# Altium schematic symbol library Driver_Haptic.SchLib: 2 symbols
Pins are listed as number, name and electrical type; pins without a type are passive.

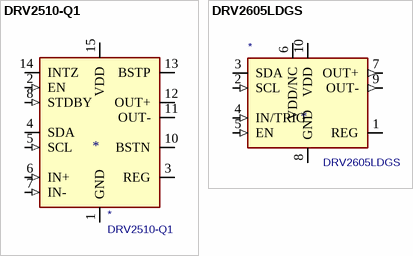
[diagram p0: symbols DRV2510-Q1 to DRV2605LDGS]

## DRV2510-Q1
designator *  value DRV2510-Q1
ki_keywords: driver haptic solenoid coil; ki_description: Haptic driver for solenoids and voice coils, up to 3A output, TSSOP-16; ki_fp_filters: HTSSOP*1EP*4.4x5mm*P0.65mm*; Footprint: Package_SO:HTSSOP-16-1EP_4.4x5mm_P0.65mm_EP3.4x5mm_Mask3x3mm_ThermalVias; Supplier: http://www.ti.com/lit/ds/symlink/drv2510-q1.pdf
footprint HTSSOP-16-1EP_4.4x5mm_P0.65mm_EP3.4x5mm_Mask3x3mm_ThermalVias
pins: 1 GND (power), 2 EN (in), 3 REG, 4 SDA (io), 5 SCL (in), 6 IN+ (in), 7 IN- (in), 8 STDBY (in), 9 GND hidden, 10 BSTN, 11 OUT- (power), 12 OUT+ (power), 13 BSTP, 14 INTZ (oc), 15 VDD (power), 16 GND hidden, 17 GND hidden

## DRV2605LDGS
designator *  value DRV2605LDGS
ki_keywords: haptic driver i2c; ki_description: Haptic driver for LRAs and ERMs with effect library, 2-5.2V, VSSOP-10; ki_fp_filters: VSSOP*3x3mm*P0.5mm*; Footprint: Package_SO:VSSOP-10_3x3mm_P0.5mm; Supplier: http://www.ti.com/lit/ds/symlink/drv2605l.pdf
footprint VSSOP-10_3x3mm_P0.5mm
pins: 1 REG, 2 SCL (in), 3 SDA (io), 4 IN/TRIG (in), 5 EN (in), 6 VDD/NC (power), 7 OUT+ (out), 8 GND (power), 9 OUT- (out), 10 VDD (power)